# Altium footprint library M.2.PcbLib: 4 footprints
Each footprint in its own frame and in the unit in brackets; x right, y up, seen from the top. Pads: shape width x height; smd on the part's side, far side on the other; paste and mask are expansions set on the pad; w line width, h text height; cw(c..) or ccw(c..) is an arc to the next point about the centre after c.
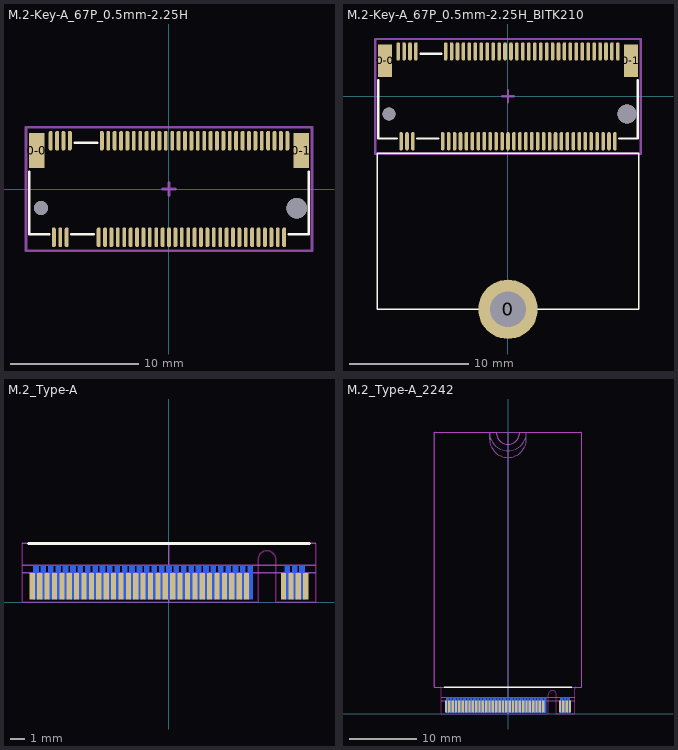
[diagram p0: the footprints below, top view; thin cyan lines are the x and y axes]

## M.2-Key-A_67P_0.5mm-2.25H [mm] "M.2-Key-A"
pads (69):
  rect 1.2x2.75 smd: 0-0(-10.35,3) 0-1(10.35,3)
  oval 0.3x1.55 smd: 1(-9.25,3.775) 2(-9,-3.775) 3(-8.75,3.775) 4(-8.5,-3.775) 5(-8.25,3.775) 6(-8,-3.775) 7(-7.75,3.775) 16(-5.5,-3.775) 17(-5.25,3.775) 18(-5,-3.775) 19(-4.75,3.775) 20(-4.5,-3.775) 21(-4.25,3.775) 22(-4,-3.775) 23(-3.75,3.775) 24(-3.5,-3.775) 25(-3.25,3.775) 26(-3,-3.775) 27(-2.75,3.775) 28(-2.5,-3.775) 29(-2.25,3.775) 30(-2,-3.775) 31(-1.75,3.775) 32(-1.5,-3.775) 33(-1.25,3.775) 34(-1,-3.775) 35(-0.75,3.775) 36(-0.5,-3.775) 37(-0.25,3.775) 38(0,-3.775) 39(0.25,3.775) 40(0.5,-3.775) 41(0.75,3.775) 42(1,-3.775) 43(1.25,3.775) 44(1.5,-3.775) 45(1.75,3.775) 46(2,-3.775) 47(2.25,3.775) 48(2.5,-3.775) 49(2.75,3.775) 50(3,-3.775) 51(3.25,3.775) 52(3.5,-3.775) 53(3.75,3.775) 54(4,-3.775) 55(4.25,3.775) 56(4.5,-3.775) 57(4.75,3.775) 58(5,-3.775) 59(5.25,3.775) 60(5.5,-3.775) 61(5.75,3.775) 62(6,-3.775) 63(6.25,3.775) 64(6.5,-3.775) 65(6.75,3.775) 66(7,-3.775) 67(7.25,3.775) 68(7.5,-3.775) 69(7.75,3.775) 70(8,-3.775) 71(8.25,3.775) 72(8.5,-3.775) 73(8.75,3.775) 74(9,-3.775) 75(9.25,3.775)
via 10,-1.5 diameter 1.6 hole 1.6
via -10,-1.5 diameter 1.1 hole 1.1
Top Overlay:
  lines w0.2: -10.922,1.359 -10.922,-3.55 -9.379,-3.55 ; -7.626,-3.55 -5.88,-3.55 ; -7.366,3.6 -5.626,3.6 ; 9.379,-3.55 10.928,-3.55 10.928,1.359
Mechanical 15:
  lines w0.2: -0.508,0 0,0 ; 0,-0.508 0,0 ; 0,0.508 0,0 ; 0.508,0 0,0 ; -11.176,-4.826 -11.176,4.826 11.176,4.826 11.176,-4.826 -11.176,-4.826
3D body "M.2-Key-A_67P_0.5mm-2.25H.stp": height 2.19, standoff -0.58, extent -10.95,-4.35 10.95,4.35

## M.2-Key-A_67P_0.5mm-2.25H_BITK210 [mm] "M.2-Key-A"
pads (70):
  round 5 hole 3: 0(0,-17.925)
  rect 1.2x2.75 smd: 0-0(-10.35,3) 0-1(10.35,3)
  oval 0.3x1.55 smd: 1(-9.25,3.775) 2(-9,-3.775) 3(-8.75,3.775) 4(-8.5,-3.775) 5(-8.25,3.775) 6(-8,-3.775) 7(-7.75,3.775) 16(-5.5,-3.775) 17(-5.25,3.775) 18(-5,-3.775) 19(-4.75,3.775) 20(-4.5,-3.775) 21(-4.25,3.775) 22(-4,-3.775) 23(-3.75,3.775) 24(-3.5,-3.775) 25(-3.25,3.775) 26(-3,-3.775) 27(-2.75,3.775) 28(-2.5,-3.775) 29(-2.25,3.775) 30(-2,-3.775) 31(-1.75,3.775) 32(-1.5,-3.775) 33(-1.25,3.775) 34(-1,-3.775) 35(-0.75,3.775) 36(-0.5,-3.775) 37(-0.25,3.775) 38(0,-3.775) 39(0.25,3.775) 40(0.5,-3.775) 41(0.75,3.775) 42(1,-3.775) 43(1.25,3.775) 44(1.5,-3.775) 45(1.75,3.775) 46(2,-3.775) 47(2.25,3.775) 48(2.5,-3.775) 49(2.75,3.775) 50(3,-3.775) 51(3.25,3.775) 52(3.5,-3.775) 53(3.75,3.775) 54(4,-3.775) 55(4.25,3.775) 56(4.5,-3.775) 57(4.75,3.775) 58(5,-3.775) 59(5.25,3.775) 60(5.5,-3.775) 61(5.75,3.775) 62(6,-3.775) 63(6.25,3.775) 64(6.5,-3.775) 65(6.75,3.775) 66(7,-3.775) 67(7.25,3.775) 68(7.5,-3.775) 69(7.75,3.775) 70(8,-3.775) 71(8.25,3.775) 72(8.5,-3.775) 73(8.75,3.775) 74(9,-3.775) 75(9.25,3.775)
via -10,-1.5 diameter 1.1 hole 1.1
via 10,-1.5 diameter 1.6 hole 1.6
Top Overlay:
  lines w0.127: -11,-4.775 11,-4.775 ; -11,-17.925 11,-17.925 11,-4.8 -11,-4.8 -11,-17.925
  lines w0.2: -10.922,1.359 -10.922,-3.55 -9.379,-3.55 ; -7.626,-3.55 -5.88,-3.55 ; -7.366,3.6 -5.626,3.6 ; 9.379,-3.55 10.928,-3.55 10.928,1.359
Mechanical 15:
  lines w0.2: -0.508,0 0,0 ; 0,-0.508 0,0 ; 0,0.508 0,0 ; 0.508,0 0,0 ; -11.176,-4.826 11.176,-4.826 11.176,4.826 -11.176,4.826 -11.176,-4.826
3D body "M.2-Key-A_67P_0.5mm-2.25H.stp": height 2.19, standoff -0.58, extent -10.95,-4.35 10.95,4.35

## M.2_Type-A [mm] "M.2-Key-A"
pads (67):
  rect 0.35x1.8 smd paste-100: 1(9.25,1.1) 3(8.75,1.1) 5(8.25,1.1) 7(7.75,1.1) 17(5.25,1.1) 19(4.75,1.1) 21(4.25,1.1) 23(3.75,1.1) 25(3.25,1.1) 27(2.75,1.1) 29(2.25,1.1) 31(1.75,1.1) 33(1.25,1.1) 35(0.75,1.1) 37(0.25,1.1) 39(-0.25,1.1) 41(-0.75,1.1) 43(-1.25,1.1) 45(-1.75,1.1) 47(-2.25,1.1) 49(-2.75,1.1) 51(-3.25,1.1) 53(-3.75,1.1) 55(-4.25,1.1) 57(-4.75,1.1) 59(-5.25,1.1) 61(-5.75,1.1) 63(-6.25,1.1) 65(-6.75,1.1) 67(-7.25,1.1) 69(-7.75,1.1) 71(-8.25,1.1) 73(-8.75,1.1) 75(-9.25,1.1)
  rect 0.35x2.3 smd far side paste-100: 2(9,1.35) 4(8.5,1.35) 6(8,1.35) 16(5.5,1.35) 18(5,1.35) 20(4.5,1.35) 22(4,1.35) 24(3.5,1.35) 26(3,1.35) 28(2.5,1.35) 30(2,1.35) 32(1.5,1.35) 34(1,1.35) 36(0.5,1.35) 38(0,1.35) 40(-0.5,1.35) 42(-1,1.35) 44(-1.5,1.35) 46(-2,1.35) 48(-2.5,1.35) 50(-3,1.35) 52(-3.5,1.35) 54(-4,1.35) 56(-4.5,1.35) 58(-5,1.35) 60(-5.5,1.35) 62(-6,1.35) 64(-6.5,1.35) 66(-7,1.35) 68(-7.5,1.35) 70(-8,1.35) 72(-8.5,1.35) 74(-9,1.35)
Top Overlay:
  lines w0.2: -9.5,4 9.5,4
Bottom Overlay:
  lines w0.2: -9.925,5.2 9.925,5.2
Keep-Out Layer:
  lines w0.1: -9.925,4 -9.925,0 6.025,0 6.025,2.9 cw(c6.625,2.9) 7.225,2.9 7.225,0 9.925,0 9.925,4
Mechanical 15:
  lines w0.1: -9.925,2 9.925,2 ; -9.925,2.5 9.925,2.5 ; -9.925,4 -9.525,4 ; 0,0 0,4 ; 9.525,4 9.925,4
  text "板厚0.8mm" at 0.59,-0.765 h0.81

## M.2_Type-A_2242 [mm] "M.2-Key-A-2242"
pads (67):
  rect 0.35x1.8 smd paste-100: 1(9.25,1.1) 3(8.75,1.1) 5(8.25,1.1) 7(7.75,1.1) 17(5.25,1.1) 19(4.75,1.1) 21(4.25,1.1) 23(3.75,1.1) 25(3.25,1.1) 27(2.75,1.1) 29(2.25,1.1) 31(1.75,1.1) 33(1.25,1.1) 35(0.75,1.1) 37(0.25,1.1) 39(-0.25,1.1) 41(-0.75,1.1) 43(-1.25,1.1) 45(-1.75,1.1) 47(-2.25,1.1) 49(-2.75,1.1) 51(-3.25,1.1) 53(-3.75,1.1) 55(-4.25,1.1) 57(-4.75,1.1) 59(-5.25,1.1) 61(-5.75,1.1) 63(-6.25,1.1) 65(-6.75,1.1) 67(-7.25,1.1) 69(-7.75,1.1) 71(-8.25,1.1) 73(-8.75,1.1) 75(-9.25,1.1)
  rect 0.35x2.3 smd far side paste-100: 2(9,1.35) 4(8.5,1.35) 6(8,1.35) 16(5.5,1.35) 18(5,1.35) 20(4.5,1.35) 22(4,1.35) 24(3.5,1.35) 26(3,1.35) 28(2.5,1.35) 30(2,1.35) 32(1.5,1.35) 34(1,1.35) 36(0.5,1.35) 38(0,1.35) 40(-0.5,1.35) 42(-1,1.35) 44(-1.5,1.35) 46(-2,1.35) 48(-2.5,1.35) 50(-3,1.35) 52(-3.5,1.35) 54(-4,1.35) 56(-4.5,1.35) 58(-5,1.35) 60(-5.5,1.35) 62(-6,1.35) 64(-6.5,1.35) 66(-7,1.35) 68(-7.5,1.35) 70(-8,1.35) 72(-8.5,1.35) 74(-9,1.35)
Top Overlay:
  lines w0.2: -9.5,4 9.5,4
Bottom Overlay:
  lines w0.2: -9.925,5.2 9.925,5.2
Keep-Out Layer:
  lines w0.1: -11,4.2 ccw(c-10.8,4.2) -10.8,4 -10.125,4 cw(c-10.125,3.8) -9.925,3.8 -9.925,0 6.025,0 6.025,2.9 cw(c6.625,2.9) 7.225,2.9 7.225,0 9.925,0 9.925,3.8 cw(c10.125,3.8) 10.125,4 10.8,4 ccw(c10.8,4.2) 11,4.2 11,41.8 ccw(c10.8,41.8) 10.8,42 1.75,42 cw(c0,42) -1.75,42 -10.8,42 ccw(c-10.8,41.8) -11,41.8 -11,4.2
Mechanical 15:
  lines w0.1: -9.925,2 9.925,2 ; -9.925,2.5 9.925,2.5 ; -9.925,4 -9.525,4 ; 0,4 0,0 0,42 ; 9.525,4 9.925,4 ; -2.75,42 ccw(c0,42) 2.75,42 ; -2.75,42 -2.75,41 ccw(c0,41) 2.75,41 2.75,42 ; -2.75,42 -1.75,42 ccw(c0,42) 1.75,42 2.75,42 ; -11,4 -11,42 11,42 11,4 -11,4
  text "板厚0.8mm" at 0.59,-0.765 h0.81